# Altium schematic symbol library 243-436-MikoBus-DrvMot.SCHLIB: 7 symbols
Pins are listed as number, name and electrical type; pins without a type are passive.

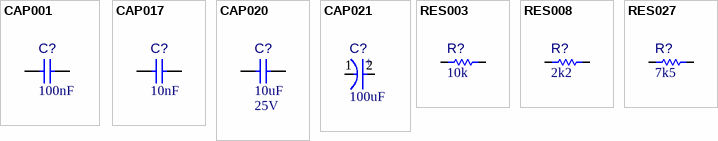
[diagram p0: symbols CAP001 to RES027]

## CAP001
designator C?, comment value 100nF  (hidden comment: CAP CER 100nF 50V 0402)
Capacitor type 1; Manufacturer 1: Taiyo Yuden; Manufacturer Part Number 1: UMK105B7104KV-FR; LibRef: CAP001; Tolerance: 10%; Dielectric: X7R; Code CEGEP: KCOND01SM; Rated Voltage: 50V; Mounting Technology: SMT; Supplier 1: LCSC; Supplier Part Number 1: C2167491
footprint C_1005[0402]
pins: 1, 2

## CAP017
designator C?, comment value 10nF  (hidden comment: CAP CER 10nF 50V X7R 0402)
Capacitor type 1; Manufacturer 1: Yageo; Manufacturer Part Number 1: CC0402KRX7R9BB103; LibRef: CAP017; Tolerance: 10%; Rated Voltage: 50V; Dielectric: X7R; Mounting Technology: SMT; Supplier 1: LCSC; Supplier Part Number 1: C60133
footprint C_1005[0402]
pins: 1, 2

## CAP020
designator C?, comment value 10uF  Rated Voltage: 25V  (hidden comment: CAP CER 10uF 25V X5R 0805)
Capacitor type 1; Manufacturer 1: Samsung; Manufacturer Part Number 1: CL21A106KAYNNNE; LibRef: CAP020; Tolerance: 10%; Dielectric: X5R; Mounting Technology: SMT; Supplier 1: LCSC; Supplier Part Number 1: C86038
footprint C_2012[0805]
pins: 1, 2

## CAP021
designator C?, comment value 100uF  (hidden comment: CAP EL 100uF 63V 10MM)
Capacitor type EL; Manufacturer 1: HRK; Manufacturer Part Number 1: GVT1J107M1010CNVC; LibRef: CAP021; Tolerance: 20%; Rated Voltage: 63V; Dielectric: EL; Mounting Technology: SMT; Supplier 1: LCSC; Supplier Part Number 1: C2983410
footprint C_EL_D10MM-L11MM (SMD, D10xL10.5mm)
pins: 1 C, 2 A
text: +

## RES003
designator R?, comment value 10k  (hidden comment: Res 10k 1% 0402)
Resistor type 1; Manufacturer 1: Vishay; Manufacturer Part Number 1: CR0402F1002T1LF; LibRef: RES003; Puissance: 1/16W; Max Working Voltage: 50V; Tolerance: 1%; Mounting Technology: SMT; Supplier 1: Digikey; Supplier Part Number 1: 541-10.0KLCT-ND
footprint R_1005[0402]
pins: 1, 2

## RES008
designator R?, comment value 2k2  (hidden comment: Res 2k2 1% 0402)
Resistor type 1; Manufacturer 1: Yageo; Manufacturer Part Number 1: RC0402FR-072K2L; LibRef: RES008; Puissance: 1/16W; Max Working Voltage: 50V; Code CEGEP: RES2.2KSM; Tolerance: 1%; Mounting Technology: SMT; Supplier 1: LCSC; Supplier Part Number 1: C114762; Supplier 2: Digi-Key; Supplier Part Number 2: 311-2.20KLRCT-ND
footprint R_1005[0402]
pins: 1, 2

## RES027
designator R?, comment value 7k5  (hidden comment: Res 7k5 1% 0402)
Resistor type 1; Manufacturer 1: Yageo; Manufacturer Part Number 1: RC0402FR-077k5L; LibRef: RES027; Puissance: 1/16W; Max Working Voltage: 50V; Tolerance: 1%; Mounting Technology: SMT; Supplier 1: LCSC; Supplier Part Number 1: C137934
footprint R_1005[0402]
pins: 1, 2